# Altium schematic symbol library SS3P4-M3_85A.SchLib: 1 symbol
Pins are listed as number, name and electrical type; pins without a type are passive.

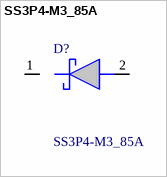
[diagram p0: symbol SS3P4-M3_85A]

## SS3P4-M3_85A
designator D?
High Current Density Surface-Mount Schottky Rectifiers; Manufacturer_Name: Vishay; Manufacturer_Part_Number: SS3P4-M3/85A; Geometry.Height: 1.15mm; Mouser Part Number: 625-SS3P4-M3/85A; Mouser Price/Stock: https://www.mouser.co.uk/ProductDetail/Vishay-General-Semiconductor/SS3P4-M3-85A?qs=HSPD0Bff7ibKviouswwnaQ%3D%3D; Arrow Part Number: *; Arrow Price/Stock: *; Datasheet Link: https://www.vishay.com/docs/88954/ss3p4.pdf
footprint SS3P4M385A
pins: 1 K, 2 A